# EAGLE library part CON-6P (library degson)
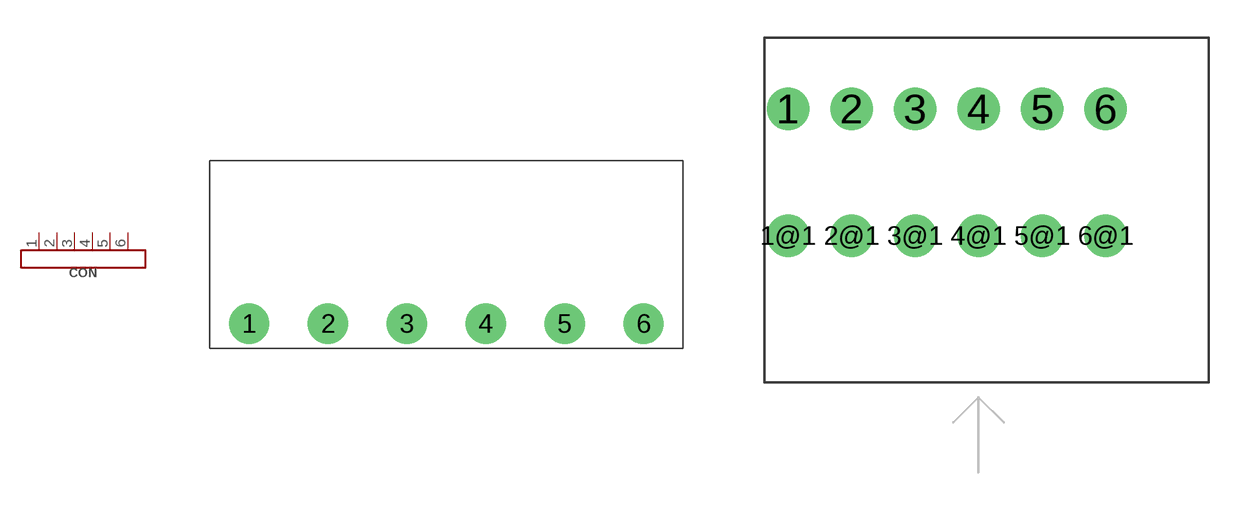
[diagram p0: symbol with the pads of 2EDGR-5.08-06P; footprints 2EDGR-5.08-06P, DG141R-2.54-06P]

Designator prefix CON

## CON-6P-2EDGR-5.08 (MANF: Degson Electronics; MANF#: 2EDGR-5.08-05P-14-00A(H); TYPE: 2EDGR-5.08)  [2EDGR-5.08-06P]
1  1
2  2
3  3
4  4
5  5
6  6

## CON-6P-DG141R-2.54 (MANF: Degson Electronics; MANF#: DG141R-2.54-06P; TYPE: DG141R-2.54)  [DG141R-2.54-06P]
1  1
1@1  1
2  2
2@1  2
3  3
3@1  3
4  4
4@1  4
5  5
5@1  5
6  6
6@1  6

## Footprint 2EDGR-5.08-06P (pad centres in mm)
drill 1.6 pad 2.6: 1 -12.7,0; 2 -7.62,0; 3 -2.54,0; 4 2.54,0; 5 7.62,0; 6 12.7,0

## Footprint DG141R-2.54-06P (pad centres in mm)
Datasheet <DG141R-2.54>
drill 1 pad 1.7: 1 -7.62,2.54; 1@1 -7.62,-2.54; 2 -5.08,2.54; 2@1 -5.08,-2.54; 3 -2.54,2.54; 3@1 -2.54,-2.54; 4 0,2.54; 4@1 0,-2.54; 5 2.54,2.54; 5@1 2.54,-2.54; 6 5.08,2.54; 6@1 5.08,-2.54